# EAGLE library part ICSP_SPRING (library 08_CONECTOR)
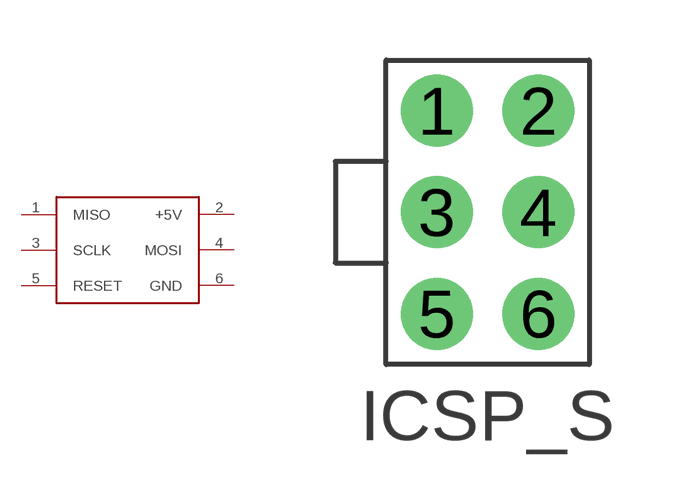
[diagram p15: symbol with the pads of ICSP_SPRING; footprint ICSP_SPRING]

Designator prefix -

## ICSP_SPRING  [ICSP_SPRING]
1  MISO
2  +5V
3  SCLK
4  MOSI
5  RESET
6  GND

## Footprint ICSP_SPRING (pad centres in mm)
drill 1.2: 1 -1.27,2.54; 2 1.27,2.54; 3 -1.27,0; 4 1.27,0; 5 -1.27,-2.54; 6 1.27,-2.54